# EAGLE library part M11B416256A-40J (library dram)
M11B416256A-40J
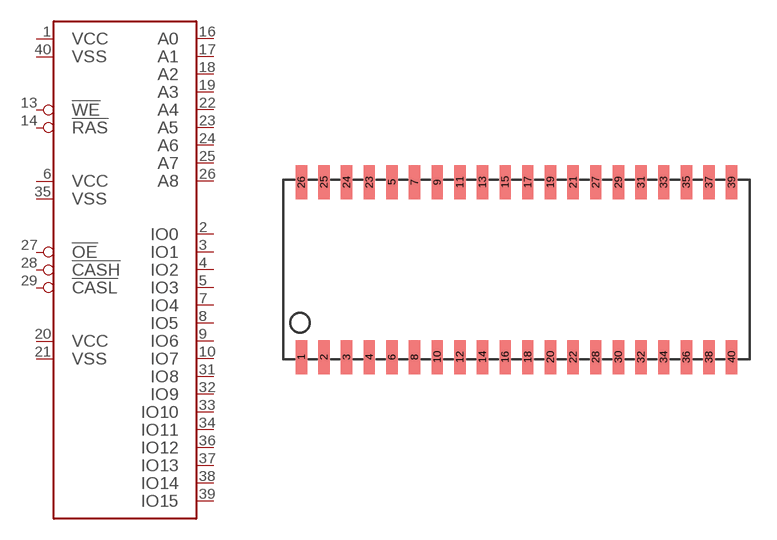
[diagram p0: symbol with the pads of SOJ40-4; footprint SOJ40-4]

Designator prefix -

## M11B416256A-40J  [SOJ40-4]
1  VCC  sup
2  IO0
3  IO1
4  IO2
5  IO3
6  VCC  sup
7  IO4
8  IO5
9  IO6
10  IO7
13  !WE  in
14  !RAS  in
16  A0  in
17  A1  in
18  A2  in
19  A3  in
20  VCC  sup
21  VSS  sup
22  A4  in
23  A5  in
24  A6  in
25  A7  in
26  A8  in
27  !OE  in
28  !CASH  in
29  !CASL  in
31  IO8
32  IO9
33  IO10
34  IO11
35  VSS  sup
36  IO12
37  IO13
38  IO14
39  IO15
40  VSS  sup

## Footprint SOJ40-4 (pad centres in mm)
SOJ40(400mil)
smd 0.635 x 1.905: 1 1.27,0.178; 2 2.54,0.178; 3 3.81,0.178; 4 5.08,0.178; 5 6.35,9.982; 6 6.35,0.178; 7 7.62,9.982; 8 7.62,0.178; 9 8.89,9.982; 10 8.89,0.178; 11 10.16,9.982; 12 10.16,0.178; 13 11.43,9.982; 14 11.43,0.178; 15 12.7,9.982; 16 12.7,0.178; 17 13.97,9.982; 18 13.97,0.178; 19 15.24,9.982; 20 15.24,0.178; 21 16.51,9.982; 22 16.51,0.178; 23 5.08,9.982; 24 3.81,9.982; 25 2.54,9.982; 26 1.27,9.982; 27 17.78,9.982; 28 17.78,0.178; 29 19.05,9.982; 30 19.05,0.178; 31 20.32,9.982; 32 20.32,0.178; 33 21.59,9.982; 34 21.59,0.178; 35 22.86,9.982; 36 22.86,0.178; 37 24.13,9.982; 38 24.13,0.178; 39 25.4,9.982; 40 25.4,0.178